# EAGLE library part ST1S40IPUR (library ruark2)
Buck Switching Regulator IC Positive Adjustable 0.8V 1 Output 3A 8-VDFN Exposed Pad
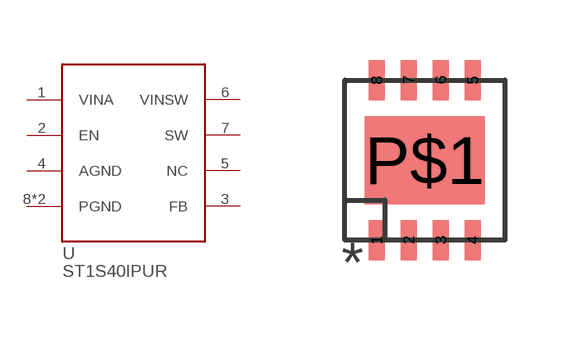
[diagram p89: symbol with the pads of VFQFPN8-4X4; footprint VFQFPN8-4X4]

Designator prefix U

## ST1S40IPUR (PARTNO: 497-12084-1-ND)  [VFQFPN8-4X4]
1  VINA
2  EN
3  FB
4  AGND
5  NC
6  VINSW
7  SW
8  PGND
P$1  PGND

## Footprint VFQFPN8-4X4 (pad centres in mm)
smd 0.4 x 1: 1 -1.2,-2; 2 -0.4,-2; 3 0.4,-2; 4 1.2,-2; 5 1.2,2; 6 0.4,2; 7 -0.4,2; 8 -1.2,2
smd 3 x 2.2: P$1 0,0